# Altium footprint library PLS4.PcbLib: 1 footprints
Each footprint in its own frame and in the unit in brackets; x right, y up, seen from the top. Pads: shape width x height; smd on the part's side, far side on the other; paste and mask are expansions set on the pad; w line width, h text height; cw(c..) or ccw(c..) is an arc to the next point about the centre after c.
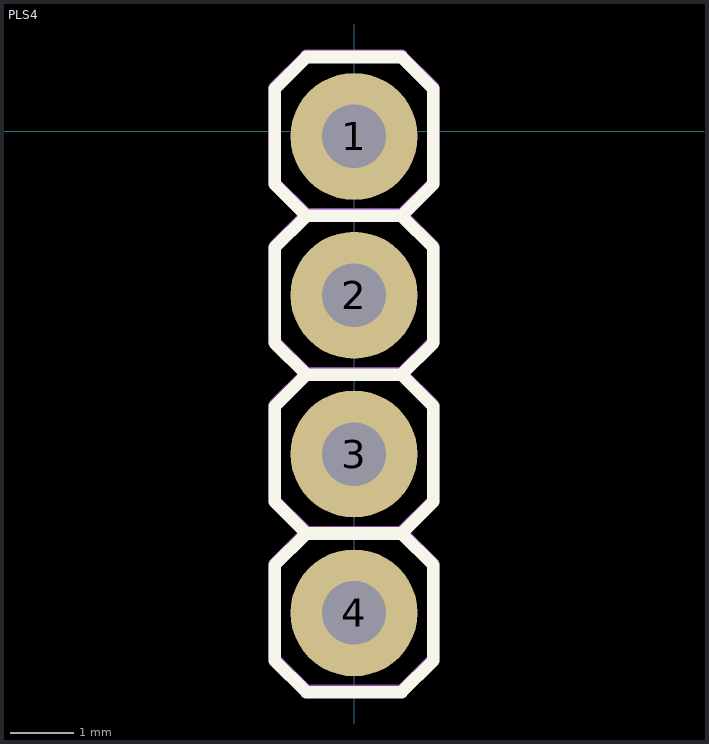
[diagram p0: the footprint, top view; thin cyan lines are the x and y axes]

## PLS4 [mm]
pads (4):
  round 2 hole 1: 1(0,-0.08) 2(0,-2.58) 3(0,-5.08) 4(0,-7.58)
Top Overlay:
  lines w0.2: -0.75,-6.33 0.75,-6.33 ; -0.75,-6.33 -1.25,-5.83 -1.25,-4.33 -0.75,-3.83 ; -0.75,-6.33 -1.25,-6.83 -1.25,-8.33 -0.75,-8.83 0.75,-8.83 1.25,-8.33 1.25,-6.83 0.75,-6.33 ; -0.75,-3.83 -1.25,-3.33 -1.25,-1.83 -0.75,-1.33 ; -0.75,-3.83 0.75,-3.83 ; -0.75,-1.33 0.75,-1.33 ; -0.75,-1.33 -1.25,-0.83 -1.25,0.67 -0.75,1.17 0.75,1.17 1.25,0.67 1.25,-0.83 0.75,-1.33 ; 0.75,-6.33 1.25,-5.83 1.25,-4.33 0.75,-3.83 ; 0.75,-3.83 1.25,-3.33 1.25,-1.83 0.75,-1.33
Mechanical 4:
  lines w0.2: -0.75,-6.31 -1.25,-5.81 -1.25,-4.31 -0.75,-3.81 ; -0.75,-6.31 0.75,-6.31 ; -0.75,-6.31 0.75,-6.31 ; -0.75,-6.31 -1.25,-6.81 -1.25,-8.31 -0.75,-8.81 0.75,-8.81 1.25,-8.31 1.25,-6.81 0.75,-6.31 ; -0.75,-3.81 -1.25,-3.31 -1.25,-1.81 -0.75,-1.31 ; -0.75,-3.81 0.75,-3.81 ; -0.75,-3.81 0.75,-3.81 ; -0.75,-1.31 -1.25,-0.81 -1.25,0.69 -0.75,1.19 0.75,1.19 1.25,0.69 1.25,-0.81 0.75,-1.31 ; -0.75,-1.31 0.75,-1.31 ; -0.75,-1.31 0.75,-1.31 ; 0.75,-6.31 1.25,-5.81 1.25,-4.31 0.75,-3.81 ; 0.75,-3.81 1.25,-3.31 1.25,-1.81 0.75,-1.31
  text ".Designator" at -4.2,1.9 h2.15
3D body "User Library-PLS-1.STEP": height 8.44, standoff -3, extent -1.27,-8.93 1.27,-6.39
3D body "User Library-PLS-1.STEP": height 8.44, standoff -3, extent -1.27,-1.35 1.27,1.19
3D body "User Library-PLS-1.STEP": height 8.44, standoff -3, extent -1.27,-3.89 1.27,-1.35
3D body "User Library-PLS-1.STEP": height 8.44, standoff -3, extent -1.27,-6.43 1.27,-3.89